# Altium footprint library AD9172+K7.PcbLib: 77 footprints (part 3 of 5)
Each footprint in its own frame and in the unit in brackets; x right, y up, seen from the top. Pads: shape width x height; smd on the part's side, far side on the other; paste and mask are expansions set on the pad; w line width, h text height; cw(c..) or ccw(c..) is an arc to the next point about the centre after c.
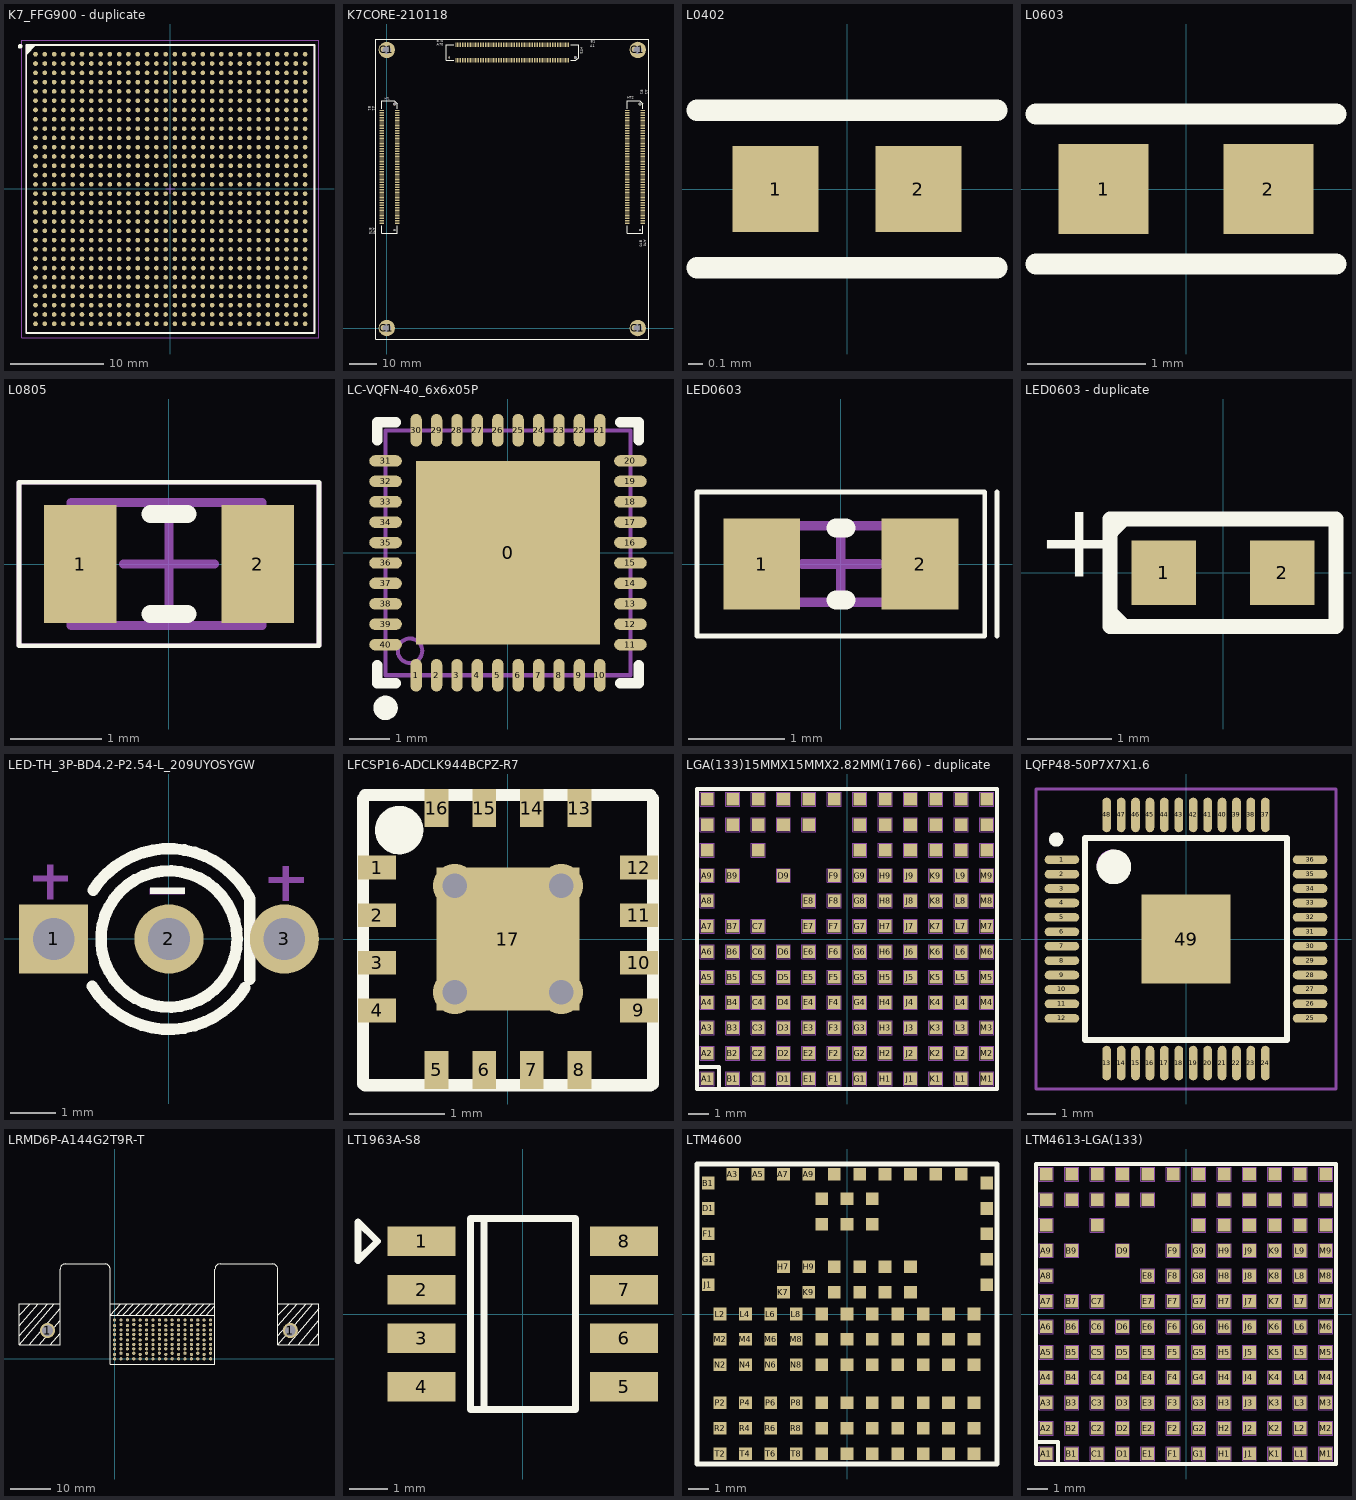
[diagram p2: the footprints below, top view; thin cyan lines are the x and y axes]

## K7_FFG900 - duplicate [mm]
height 2.54
pads (900):
  round 0.5 smd: A1(-14.5,14.5) A2(-13.5,14.5) A3(-12.5,14.5) A4(-11.5,14.5) A5(-10.5,14.5) A6(-9.5,14.5) A7(-8.5,14.5) A8(-7.5,14.5) A9(-6.5,14.5) A10(-5.5,14.5) A11(-4.5,14.5) A12(-3.5,14.5) A13(-2.5,14.5) A14(-1.5,14.5) A15(-0.5,14.5) A16(0.5,14.5) A17(1.5,14.5) A18(2.5,14.5) A19(3.5,14.5) A20(4.5,14.5) A21(5.5,14.5) A22(6.5,14.5) A23(7.5,14.5) A24(8.5,14.5) A25(9.5,14.5) A26(10.5,14.5) A27(11.5,14.5) A28(12.5,14.5) A29(13.5,14.5) A30(14.5,14.5) AA1(-14.5,-5.5) AA2(-13.5,-5.5) AA3(-12.5,-5.5) AA4(-11.5,-5.5) AA5(-10.5,-5.5) AA6(-9.5,-5.5) AA7(-8.5,-5.5) AA8(-7.5,-5.5) AA9(-6.5,-5.5) AA10(-5.5,-5.5) AA11(-4.5,-5.5) AA12(-3.5,-5.5) AA13(-2.5,-5.5) AA14(-1.5,-5.5) AA15(-0.5,-5.5) AA16(0.5,-5.5) AA17(1.5,-5.5) AA18(2.5,-5.5) AA19(3.5,-5.5) AA20(4.5,-5.5) AA21(5.5,-5.5) AA22(6.5,-5.5) AA23(7.5,-5.5) AA24(8.5,-5.5) AA25(9.5,-5.5) AA26(10.5,-5.5) AA27(11.5,-5.5) AA28(12.5,-5.5) AA29(13.5,-5.5) AA30(14.5,-5.5) AB1(-14.5,-6.5) AB2(-13.5,-6.5) AB3(-12.5,-6.5) AB4(-11.5,-6.5) AB5(-10.5,-6.5) AB6(-9.5,-6.5) AB7(-8.5,-6.5) AB8(-7.5,-6.5) AB9(-6.5,-6.5) AB10(-5.5,-6.5) AB11(-4.5,-6.5) AB12(-3.5,-6.5) AB13(-2.5,-6.5) AB14(-1.5,-6.5) AB15(-0.5,-6.5) AB16(0.5,-6.5) AB17(1.5,-6.5) AB18(2.5,-6.5) AB19(3.5,-6.5) AB20(4.5,-6.5) AB21(5.5,-6.5) AB22(6.5,-6.5) AB23(7.5,-6.5) AB24(8.5,-6.5) AB25(9.5,-6.5) AB26(10.5,-6.5) AB27(11.5,-6.5) AB28(12.5,-6.5) AB29(13.5,-6.5) AB30(14.5,-6.5) AC1(-14.5,-7.5) AC2(-13.5,-7.5) AC3(-12.5,-7.5) AC4(-11.5,-7.5) AC5(-10.5,-7.5) AC6(-9.5,-7.5) AC7(-8.5,-7.5) AC8(-7.5,-7.5) AC9(-6.5,-7.5) AC10(-5.5,-7.5) AC11(-4.5,-7.5) AC12(-3.5,-7.5) AC13(-2.5,-7.5) AC14(-1.5,-7.5) AC15(-0.5,-7.5) AC16(0.5,-7.5) AC17(1.5,-7.5) AC18(2.5,-7.5) AC19(3.5,-7.5) AC20(4.5,-7.5) AC21(5.5,-7.5) AC22(6.5,-7.5) AC23(7.5,-7.5) AC24(8.5,-7.5) AC25(9.5,-7.5) AC26(10.5,-7.5) AC27(11.5,-7.5) AC28(12.5,-7.5) AC29(13.5,-7.5) AC30(14.5,-7.5) AD1(-14.5,-8.5) AD2(-13.5,-8.5) AD3(-12.5,-8.5) AD4(-11.5,-8.5) AD5(-10.5,-8.5) AD6(-9.5,-8.5) AD7(-8.5,-8.5) AD8(-7.5,-8.5) AD9(-6.5,-8.5) AD10(-5.5,-8.5) AD11(-4.5,-8.5) AD12(-3.5,-8.5) AD13(-2.5,-8.5) AD14(-1.5,-8.5) AD15(-0.5,-8.5) AD16(0.5,-8.5) AD17(1.5,-8.5) AD18(2.5,-8.5) AD19(3.5,-8.5) AD20(4.5,-8.5) AD21(5.5,-8.5) AD22(6.5,-8.5) AD23(7.5,-8.5) AD24(8.5,-8.5) AD25(9.5,-8.5) AD26(10.5,-8.5) AD27(11.5,-8.5) AD28(12.5,-8.5) AD29(13.5,-8.5) AD30(14.5,-8.5) AE1(-14.5,-9.5) AE2(-13.5,-9.5) AE3(-12.5,-9.5) AE4(-11.5,-9.5) AE5(-10.5,-9.5) AE6(-9.5,-9.5) AE7(-8.5,-9.5) AE8(-7.5,-9.5) AE9(-6.5,-9.5) AE10(-5.5,-9.5) AE11(-4.5,-9.5) AE12(-3.5,-9.5) AE13(-2.5,-9.5) AE14(-1.5,-9.5) AE15(-0.5,-9.5) AE16(0.5,-9.5) AE17(1.5,-9.5) AE18(2.5,-9.5) AE19(3.5,-9.5) AE20(4.5,-9.5) AE21(5.5,-9.5) AE22(6.5,-9.5) AE23(7.5,-9.5) AE24(8.5,-9.5) AE25(9.5,-9.5) AE26(10.5,-9.5) AE27(11.5,-9.5) AE28(12.5,-9.5) AE29(13.5,-9.5) AE30(14.5,-9.5) AF1(-14.5,-10.5) AF2(-13.5,-10.5) AF3(-12.5,-10.5) AF4(-11.5,-10.5) AF5(-10.5,-10.5) AF6(-9.5,-10.5) AF7(-8.5,-10.5) AF8(-7.5,-10.5) AF9(-6.5,-10.5) AF10(-5.5,-10.5) AF11(-4.5,-10.5) AF12(-3.5,-10.5) AF13(-2.5,-10.5) AF14(-1.5,-10.5) AF15(-0.5,-10.5) AF16(0.5,-10.5) AF17(1.5,-10.5) AF18(2.5,-10.5) AF19(3.5,-10.5) AF20(4.5,-10.5) AF21(5.5,-10.5) AF22(6.5,-10.5) AF23(7.5,-10.5) AF24(8.5,-10.5) AF25(9.5,-10.5) AF26(10.5,-10.5) AF27(11.5,-10.5) AF28(12.5,-10.5) AF29(13.5,-10.5) AF30(14.5,-10.5) AG1(-14.5,-11.5) AG2(-13.5,-11.5) AG3(-12.5,-11.5) AG4(-11.5,-11.5) AG5(-10.5,-11.5) AG6(-9.5,-11.5) AG7(-8.5,-11.5) AG8(-7.5,-11.5) AG9(-6.5,-11.5) AG10(-5.5,-11.5) AG11(-4.5,-11.5) AG12(-3.5,-11.5) AG13(-2.5,-11.5) AG14(-1.5,-11.5) AG15(-0.5,-11.5) AG16(0.5,-11.5) AG17(1.5,-11.5) AG18(2.5,-11.5) AG19(3.5,-11.5) AG20(4.5,-11.5) AG21(5.5,-11.5) AG22(6.5,-11.5) AG23(7.5,-11.5) AG24(8.5,-11.5) AG25(9.5,-11.5) AG26(10.5,-11.5) AG27(11.5,-11.5) AG28(12.5,-11.5) AG29(13.5,-11.5) AG30(14.5,-11.5) AH1(-14.5,-12.5) AH2(-13.5,-12.5) AH3(-12.5,-12.5) AH4(-11.5,-12.5) AH5(-10.5,-12.5) AH6(-9.5,-12.5) AH7(-8.5,-12.5) AH8(-7.5,-12.5) AH9(-6.5,-12.5) AH10(-5.5,-12.5) AH11(-4.5,-12.5) AH12(-3.5,-12.5) AH13(-2.5,-12.5) AH14(-1.5,-12.5) AH15(-0.5,-12.5) AH16(0.5,-12.5) AH17(1.5,-12.5) AH18(2.5,-12.5) AH19(3.5,-12.5) AH20(4.5,-12.5) AH21(5.5,-12.5) AH22(6.5,-12.5) AH23(7.5,-12.5) AH24(8.5,-12.5) AH25(9.5,-12.5) AH26(10.5,-12.5) AH27(11.5,-12.5) AH28(12.5,-12.5) AH29(13.5,-12.5) AH30(14.5,-12.5) AJ1(-14.5,-13.5) AJ2(-13.5,-13.5) AJ3(-12.5,-13.5) AJ4(-11.5,-13.5) AJ5(-10.5,-13.5) AJ6(-9.5,-13.5) AJ7(-8.5,-13.5) AJ8(-7.5,-13.5) AJ9(-6.5,-13.5) AJ10(-5.5,-13.5) AJ11(-4.5,-13.5) AJ12(-3.5,-13.5) AJ13(-2.5,-13.5) AJ14(-1.5,-13.5) AJ15(-0.5,-13.5) AJ16(0.5,-13.5) AJ17(1.5,-13.5) AJ18(2.5,-13.5) AJ19(3.5,-13.5) AJ20(4.5,-13.5) AJ21(5.5,-13.5) AJ22(6.5,-13.5) AJ23(7.5,-13.5) AJ24(8.5,-13.5) AJ25(9.5,-13.5) AJ26(10.5,-13.5) AJ27(11.5,-13.5) AJ28(12.5,-13.5) AJ29(13.5,-13.5) AJ30(14.5,-13.5) AK1(-14.5,-14.5) AK2(-13.5,-14.5) AK3(-12.5,-14.5) AK4(-11.5,-14.5) AK5(-10.5,-14.5) AK6(-9.5,-14.5) AK7(-8.5,-14.5) AK8(-7.5,-14.5) AK9(-6.5,-14.5) AK10(-5.5,-14.5) AK11(-4.5,-14.5) AK12(-3.5,-14.5) AK13(-2.5,-14.5) AK14(-1.5,-14.5) AK15(-0.5,-14.5) AK16(0.5,-14.5) AK17(1.5,-14.5) AK18(2.5,-14.5) AK19(3.5,-14.5) AK20(4.5,-14.5) AK21(5.5,-14.5) AK22(6.5,-14.5) AK23(7.5,-14.5) AK24(8.5,-14.5) AK25(9.5,-14.5) AK26(10.5,-14.5) AK27(11.5,-14.5) AK28(12.5,-14.5) AK29(13.5,-14.5) AK30(14.5,-14.5) B1(-14.5,13.5) B2(-13.5,13.5) B3(-12.5,13.5) B4(-11.5,13.5) B5(-10.5,13.5) B6(-9.5,13.5) B7(-8.5,13.5) B8(-7.5,13.5) B9(-6.5,13.5) B10(-5.5,13.5) B11(-4.5,13.5) B12(-3.5,13.5) B13(-2.5,13.5) B14(-1.5,13.5) B15(-0.5,13.5) B16(0.5,13.5) B17(1.5,13.5) B18(2.5,13.5) B19(3.5,13.5) B20(4.5,13.5) B21(5.5,13.5) B22(6.5,13.5) B23(7.5,13.5) B24(8.5,13.5) B25(9.5,13.5) B26(10.5,13.5) B27(11.5,13.5) B28(12.5,13.5) B29(13.5,13.5) B30(14.5,13.5) C1(-14.5,12.5) C2(-13.5,12.5) C3(-12.5,12.5) C4(-11.5,12.5) C5(-10.5,12.5) C6(-9.5,12.5) C7(-8.5,12.5) C8(-7.5,12.5) C9(-6.5,12.5) C10(-5.5,12.5) C11(-4.5,12.5) C12(-3.5,12.5) C13(-2.5,12.5) C14(-1.5,12.5) C15(-0.5,12.5) C16(0.5,12.5) C17(1.5,12.5) C18(2.5,12.5) C19(3.5,12.5) C20(4.5,12.5) C21(5.5,12.5) C22(6.5,12.5) C23(7.5,12.5) C24(8.5,12.5) C25(9.5,12.5) C26(10.5,12.5) C27(11.5,12.5) C28(12.5,12.5) C29(13.5,12.5) C30(14.5,12.5) D1(-14.5,11.5) D2(-13.5,11.5) D3(-12.5,11.5) D4(-11.5,11.5) D5(-10.5,11.5) D6(-9.5,11.5) D7(-8.5,11.5) D8(-7.5,11.5) D9(-6.5,11.5) D10(-5.5,11.5) D11(-4.5,11.5) D12(-3.5,11.5) D13(-2.5,11.5) D14(-1.5,11.5) D15(-0.5,11.5) D16(0.5,11.5) D17(1.5,11.5) D18(2.5,11.5) D19(3.5,11.5) D20(4.5,11.5) D21(5.5,11.5) D22(6.5,11.5) D23(7.5,11.5) D24(8.5,11.5) D25(9.5,11.5) D26(10.5,11.5) D27(11.5,11.5) D28(12.5,11.5) D29(13.5,11.5) D30(14.5,11.5) E1(-14.5,10.5) E2(-13.5,10.5) E3(-12.5,10.5) E4(-11.5,10.5) E5(-10.5,10.5) E6(-9.5,10.5) E7(-8.5,10.5) E8(-7.5,10.5) E9(-6.5,10.5) E10(-5.5,10.5) E11(-4.5,10.5) E12(-3.5,10.5) E13(-2.5,10.5) E14(-1.5,10.5) E15(-0.5,10.5) E16(0.5,10.5) E17(1.5,10.5) E18(2.5,10.5) E19(3.5,10.5) E20(4.5,10.5) E21(5.5,10.5) E22(6.5,10.5) E23(7.5,10.5) E24(8.5,10.5) E25(9.5,10.5) E26(10.5,10.5) E27(11.5,10.5) E28(12.5,10.5) E29(13.5,10.5) E30(14.5,10.5) F1(-14.5,9.5) F2(-13.5,9.5) F3(-12.5,9.5) F4(-11.5,9.5) F5(-10.5,9.5) F6(-9.5,9.5) F7(-8.5,9.5) F8(-7.5,9.5) F9(-6.5,9.5) F10(-5.5,9.5) F11(-4.5,9.5) F12(-3.5,9.5) F13(-2.5,9.5) F14(-1.5,9.5) F15(-0.5,9.5) F16(0.5,9.5) F17(1.5,9.5) F18(2.5,9.5) F19(3.5,9.5) F20(4.5,9.5) F21(5.5,9.5) F22(6.5,9.5) F23(7.5,9.5) F24(8.5,9.5) F25(9.5,9.5) F26(10.5,9.5) F27(11.5,9.5) F28(12.5,9.5) F29(13.5,9.5) F30(14.5,9.5) G1(-14.5,8.5) G2(-13.5,8.5) G3(-12.5,8.5) G4(-11.5,8.5) G5(-10.5,8.5) G6(-9.5,8.5) G7(-8.5,8.5) G8(-7.5,8.5) G9(-6.5,8.5) G10(-5.5,8.5) G11(-4.5,8.5) G12(-3.5,8.5) G13(-2.5,8.5) G14(-1.5,8.5) G15(-0.5,8.5) G16(0.5,8.5) G17(1.5,8.5) G18(2.5,8.5) G19(3.5,8.5) G20(4.5,8.5) G21(5.5,8.5) G22(6.5,8.5) G23(7.5,8.5) G24(8.5,8.5) G25(9.5,8.5) G26(10.5,8.5) G27(11.5,8.5) G28(12.5,8.5) G29(13.5,8.5) G30(14.5,8.5) H1(-14.5,7.5) H2(-13.5,7.5) H3(-12.5,7.5) H4(-11.5,7.5) H5(-10.5,7.5) H6(-9.5,7.5) H7(-8.5,7.5) H8(-7.5,7.5) H9(-6.5,7.5) H10(-5.5,7.5) H11(-4.5,7.5) H12(-3.5,7.5) H13(-2.5,7.5) H14(-1.5,7.5) H15(-0.5,7.5) H16(0.5,7.5) H17(1.5,7.5) H18(2.5,7.5) H19(3.5,7.5) H20(4.5,7.5) H21(5.5,7.5) H22(6.5,7.5) H23(7.5,7.5) H24(8.5,7.5) H25(9.5,7.5) H26(10.5,7.5) H27(11.5,7.5) H28(12.5,7.5) H29(13.5,7.5) H30(14.5,7.5) J1(-14.5,6.5) J2(-13.5,6.5) J3(-12.5,6.5) J4(-11.5,6.5) J5(-10.5,6.5) J6(-9.5,6.5) J7(-8.5,6.5) J8(-7.5,6.5) J9(-6.5,6.5) J10(-5.5,6.5) J11(-4.5,6.5) J12(-3.5,6.5) J13(-2.5,6.5) J14(-1.5,6.5) J15(-0.5,6.5) J16(0.5,6.5) J17(1.5,6.5) J18(2.5,6.5) J19(3.5,6.5) J20(4.5,6.5) J21(5.5,6.5) J22(6.5,6.5) J23(7.5,6.5) J24(8.5,6.5) J25(9.5,6.5) J26(10.5,6.5) J27(11.5,6.5) J28(12.5,6.5) J29(13.5,6.5) J30(14.5,6.5) K1(-14.5,5.5) K2(-13.5,5.5) K3(-12.5,5.5) K4(-11.5,5.5) K5(-10.5,5.5) K6(-9.5,5.5) K7(-8.5,5.5) K8(-7.5,5.5) K9(-6.5,5.5) K10(-5.5,5.5) K11(-4.5,5.5) K12(-3.5,5.5) K13(-2.5,5.5) K14(-1.5,5.5) K15(-0.5,5.5) K16(0.5,5.5) K17(1.5,5.5) K18(2.5,5.5) K19(3.5,5.5) K20(4.5,5.5) K21(5.5,5.5) K22(6.5,5.5) K23(7.5,5.5) K24(8.5,5.5) K25(9.5,5.5) K26(10.5,5.5) K27(11.5,5.5) K28(12.5,5.5) K29(13.5,5.5) K30(14.5,5.5) L1(-14.5,4.5) L2(-13.5,4.5) L3(-12.5,4.5) L4(-11.5,4.5) L5(-10.5,4.5) L6(-9.5,4.5) L7(-8.5,4.5) L8(-7.5,4.5) L9(-6.5,4.5) L10(-5.5,4.5) L11(-4.5,4.5) L12(-3.5,4.5) L13(-2.5,4.5) L14(-1.5,4.5) L15(-0.5,4.5) L16(0.5,4.5) L17(1.5,4.5) L18(2.5,4.5) L19(3.5,4.5) L20(4.5,4.5) L21(5.5,4.5) L22(6.5,4.5) L23(7.5,4.5) L24(8.5,4.5) L25(9.5,4.5) L26(10.5,4.5) L27(11.5,4.5) L28(12.5,4.5) L29(13.5,4.5) L30(14.5,4.5) M1(-14.5,3.5) M2(-13.5,3.5) M3(-12.5,3.5) M4(-11.5,3.5) M5(-10.5,3.5) M6(-9.5,3.5) M7(-8.5,3.5) M8(-7.5,3.5) M9(-6.5,3.5) M10(-5.5,3.5) M11(-4.5,3.5) M12(-3.5,3.5) M13(-2.5,3.5) M14(-1.5,3.5) M15(-0.5,3.5) M16(0.5,3.5) M17(1.5,3.5) M18(2.5,3.5) M19(3.5,3.5) M20(4.5,3.5) M21(5.5,3.5) M22(6.5,3.5) M23(7.5,3.5) M24(8.5,3.5) M25(9.5,3.5) M26(10.5,3.5) M27(11.5,3.5) M28(12.5,3.5) M29(13.5,3.5) M30(14.5,3.5) N1(-14.5,2.5) N2(-13.5,2.5) N3(-12.5,2.5) N4(-11.5,2.5) N5(-10.5,2.5) N6(-9.5,2.5) N7(-8.5,2.5) N8(-7.5,2.5) N9(-6.5,2.5) N10(-5.5,2.5) N11(-4.5,2.5) N12(-3.5,2.5) N13(-2.5,2.5) N14(-1.5,2.5) N15(-0.5,2.5) N16(0.5,2.5) N17(1.5,2.5) N18(2.5,2.5) N19(3.5,2.5) N20(4.5,2.5) N21(5.5,2.5) N22(6.5,2.5) N23(7.5,2.5) N24(8.5,2.5) N25(9.5,2.5) N26(10.5,2.5) N27(11.5,2.5) N28(12.5,2.5) N29(13.5,2.5) N30(14.5,2.5) P1(-14.5,1.5) P2(-13.5,1.5) P3(-12.5,1.5) P4(-11.5,1.5) P5(-10.5,1.5) P6(-9.5,1.5) P7(-8.5,1.5) P8(-7.5,1.5) P9(-6.5,1.5) P10(-5.5,1.5) P11(-4.5,1.5) P12(-3.5,1.5) P13(-2.5,1.5) P14(-1.5,1.5) P15(-0.5,1.5) P16(0.5,1.5) P17(1.5,1.5) P18(2.5,1.5) P19(3.5,1.5) P20(4.5,1.5) P21(5.5,1.5) P22(6.5,1.5) P23(7.5,1.5) P24(8.5,1.5) P25(9.5,1.5) P26(10.5,1.5) P27(11.5,1.5) P28(12.5,1.5) P29(13.5,1.5) P30(14.5,1.5) R1(-14.5,0.5) R2(-13.5,0.5) R3(-12.5,0.5) R4(-11.5,0.5) R5(-10.5,0.5) R6(-9.5,0.5) R7(-8.5,0.5) R8(-7.5,0.5) R9(-6.5,0.5) R10(-5.5,0.5) R11(-4.5,0.5) R12(-3.5,0.5) R13(-2.5,0.5) R14(-1.5,0.5) R15(-0.5,0.5) R16(0.5,0.5) R17(1.5,0.5) R18(2.5,0.5) R19(3.5,0.5) R20(4.5,0.5) R21(5.5,0.5) R22(6.5,0.5) R23(7.5,0.5) R24(8.5,0.5) R25(9.5,0.5) R26(10.5,0.5) R27(11.5,0.5) R28(12.5,0.5) R29(13.5,0.5) R30(14.5,0.5) T1(-14.5,-0.5) T2(-13.5,-0.5) T3(-12.5,-0.5) T4(-11.5,-0.5) T5(-10.5,-0.5) T6(-9.5,-0.5) T7(-8.5,-0.5) T8(-7.5,-0.5) T9(-6.5,-0.5) T10(-5.5,-0.5) T11(-4.5,-0.5) T12(-3.5,-0.5) T13(-2.5,-0.5) T14(-1.5,-0.5) T15(-0.5,-0.5) T16(0.5,-0.5) T17(1.5,-0.5) T18(2.5,-0.5) T19(3.5,-0.5) T20(4.5,-0.5) T21(5.5,-0.5) T22(6.5,-0.5) T23(7.5,-0.5) T24(8.5,-0.5) T25(9.5,-0.5) T26(10.5,-0.5) T27(11.5,-0.5) T28(12.5,-0.5) T29(13.5,-0.5) T30(14.5,-0.5) U1(-14.5,-1.5) U2(-13.5,-1.5) U3(-12.5,-1.5) U4(-11.5,-1.5) U5(-10.5,-1.5) U6(-9.5,-1.5) U7(-8.5,-1.5) U8(-7.5,-1.5) U9(-6.5,-1.5) U10(-5.5,-1.5) U11(-4.5,-1.5) U12(-3.5,-1.5) U13(-2.5,-1.5) U14(-1.5,-1.5) U15(-0.5,-1.5) U16(0.5,-1.5) U17(1.5,-1.5) U18(2.5,-1.5) U19(3.5,-1.5) U20(4.5,-1.5) U21(5.5,-1.5) U22(6.5,-1.5) U23(7.5,-1.5) U24(8.5,-1.5) U25(9.5,-1.5) U26(10.5,-1.5) U27(11.5,-1.5) U28(12.5,-1.5) U29(13.5,-1.5) U30(14.5,-1.5) V1(-14.5,-2.5) V2(-13.5,-2.5) V3(-12.5,-2.5) V4(-11.5,-2.5) V5(-10.5,-2.5) V6(-9.5,-2.5) V7(-8.5,-2.5) V8(-7.5,-2.5) V9(-6.5,-2.5) V10(-5.5,-2.5) V11(-4.5,-2.5) V12(-3.5,-2.5) V13(-2.5,-2.5) V14(-1.5,-2.5) V15(-0.5,-2.5) V16(0.5,-2.5) V17(1.5,-2.5) V18(2.5,-2.5) V19(3.5,-2.5) V20(4.5,-2.5) V21(5.5,-2.5) V22(6.5,-2.5) V23(7.5,-2.5) V24(8.5,-2.5) V25(9.5,-2.5) V26(10.5,-2.5) V27(11.5,-2.5) V28(12.5,-2.5) V29(13.5,-2.5) V30(14.5,-2.5) W1(-14.5,-3.5) W2(-13.5,-3.5) W3(-12.5,-3.5) W4(-11.5,-3.5) W5(-10.5,-3.5) W6(-9.5,-3.5) W7(-8.5,-3.5) W8(-7.5,-3.5) W9(-6.5,-3.5) W10(-5.5,-3.5) W11(-4.5,-3.5) W12(-3.5,-3.5) W13(-2.5,-3.5) W14(-1.5,-3.5) W15(-0.5,-3.5) W16(0.5,-3.5) W17(1.5,-3.5) W18(2.5,-3.5) W19(3.5,-3.5) W20(4.5,-3.5) W21(5.5,-3.5) W22(6.5,-3.5) W23(7.5,-3.5) W24(8.5,-3.5) W25(9.5,-3.5) W26(10.5,-3.5) W27(11.5,-3.5) W28(12.5,-3.5) W29(13.5,-3.5) W30(14.5,-3.5) Y1(-14.5,-4.5) Y2(-13.5,-4.5) Y3(-12.5,-4.5) Y4(-11.5,-4.5) Y5(-10.5,-4.5) Y6(-9.5,-4.5) Y7(-8.5,-4.5) Y8(-7.5,-4.5) Y9(-6.5,-4.5) Y10(-5.5,-4.5) Y11(-4.5,-4.5) Y12(-3.5,-4.5) Y13(-2.5,-4.5) Y14(-1.5,-4.5) Y15(-0.5,-4.5) Y16(0.5,-4.5) Y17(1.5,-4.5) Y18(2.5,-4.5) Y19(3.5,-4.5) Y20(4.5,-4.5) Y21(5.5,-4.5) Y22(6.5,-4.5) Y23(7.5,-4.5) Y24(8.5,-4.5) Y25(9.5,-4.5) Y26(10.5,-4.5) Y27(11.5,-4.5) Y28(12.5,-4.5) Y29(13.5,-4.5) Y30(14.5,-4.5)
Top Overlay:
  circle w0.25: c-16.15,15.35 r0.125
  region: -14.5,15.5 -15.5,14.5 -15.5,15.5
  lines w0.2: -15.5,14.5 -14.5,15.5 ; -15.5,-15.5 15.5,-15.5 15.5,15.5 -15.5,15.5 -15.5,-15.5
Mechanical 13:
  lines w0.1: -15.5,-15.5 15.5,-15.5 15.5,15.5 -15.5,15.5 -15.5,-15.5
Mechanical 15:
  lines w0.05: -16,-16 16,-16 16,16 -16,16 -16,-16
  lines w0.1: -0.5,0 0.5,0 ; 0,-0.5 0,0.5
3D body: height 2.54, standoff 0.4, extent -15.5,-15.5 15.5,15.5

## K7CORE-210118 [mm] "TT202101182204"
pads (430):
  rect 1.7x0.35 smd mask+0.102: A1_1(3.85,79.7) A1_2(3.85,79.1) A1_3(3.85,78.5) A1_4(3.85,77.9) A1_5(3.85,77.3) A1_6(3.85,76.7) A1_7(3.85,76.1) A1_8(3.85,75.5) A1_9(3.85,74.9) A1_10(3.85,74.3) A1_11(3.85,73.7) A1_12(3.85,73.1) A1_13(3.85,72.5) A1_14(3.85,71.9) A1_15(3.85,71.3) A1_16(3.85,70.7) A1_17(3.85,70.1) A1_18(3.85,69.5) A1_19(3.85,68.9) A1_20(3.85,68.3) A1_21(3.85,67.7) A1_22(3.85,67.1) A1_23(3.85,66.5) A1_24(3.85,65.9) A1_25(3.85,65.3) A1_26(3.85,64.7) A1_27(3.85,64.1) A1_28(3.85,63.5) A1_29(3.85,62.9) A1_30(3.85,62.3) A1_31(3.85,61.7) A1_32(3.85,61.1) A1_33(3.85,60.5) A1_34(3.85,59.9) A1_35(3.85,59.3) A1_36(3.85,58.7) A1_37(3.85,58.1) A1_38(3.85,57.5) A1_39(3.85,56.9) A1_40(3.85,56.3) A1_41(3.85,55.7) A1_42(3.85,55.1) A1_43(3.85,54.5) A1_44(3.85,53.9) A1_45(3.85,53.3) A1_46(3.85,52.7) A1_47(3.85,52.1) A1_48(3.85,51.5) A1_49(3.85,50.9) A1_50(3.85,50.3) A1_51(3.85,49.7) A1_52(3.85,49.1) A1_53(3.85,48.5) A1_54(3.85,47.9) A1_55(3.85,47.3) A1_56(3.85,46.7) A1_57(3.85,46.1) A1_58(3.85,45.5) A1_59(3.85,44.9) A1_60(3.85,44.3) A1_61(3.85,43.7) A1_62(3.85,43.1) A1_63(3.85,42.5) A1_64(3.85,41.9) A1_65(3.85,41.3) A1_66(3.85,40.7) A1_67(3.85,40.1) A1_68(3.85,39.5) A1_69(3.85,38.9) A1_70(3.85,38.3) A2_1(93.85,79.7) A2_2(93.85,79.1) A2_3(93.85,78.5) A2_4(93.85,77.9) A2_5(93.85,77.3) A2_6(93.85,76.7) A2_7(93.85,76.1) A2_8(93.85,75.5) A2_9(93.85,74.9) A2_10(93.85,74.3) A2_11(93.85,73.7) A2_12(93.85,73.1) A2_13(93.85,72.5) A2_14(93.85,71.9) A2_15(93.85,71.3) A2_16(93.85,70.7) A2_17(93.85,70.1) A2_18(93.85,69.5) A2_19(93.85,68.9) A2_20(93.85,68.3) A2_21(93.85,67.7) A2_22(93.85,67.1) A2_23(93.85,66.5) A2_24(93.85,65.9) A2_25(93.85,65.3) A2_26(93.85,64.7) A2_27(93.85,64.1) A2_28(93.85,63.5) A2_29(93.85,62.9) A2_30(93.85,62.3) A2_31(93.85,61.7) A2_32(93.85,61.1) A2_33(93.85,60.5) A2_34(93.85,59.9) A2_35(93.85,59.3) A2_36(93.85,58.7) A2_37(93.85,58.1) A2_38(93.85,57.5) A2_39(93.85,56.9) A2_40(93.85,56.3) A2_41(93.85,55.7) A2_42(93.85,55.1) A2_43(93.85,54.5) A2_44(93.85,53.9) A2_45(93.85,53.3) A2_46(93.85,52.7) A2_47(93.85,52.1) A2_48(93.85,51.5) A2_49(93.85,50.9) A2_50(93.85,50.3) A2_51(93.85,49.7) A2_52(93.85,49.1) A2_53(93.85,48.5) A2_54(93.85,47.9) A2_55(93.85,47.3) A2_56(93.85,46.7) A2_57(93.85,46.1) A2_58(93.85,45.5) A2_59(93.85,44.9) A2_60(93.85,44.3) A2_61(93.85,43.7) A2_62(93.85,43.1) A2_63(93.85,42.5) A2_64(93.85,41.9) A2_65(93.85,41.3) A2_66(93.85,40.7) A2_67(93.85,40.1) A2_68(93.85,39.5) A2_69(93.85,38.9) A2_70(93.85,38.3) B1_1(-1.85,79.7) B1_2(-1.85,79.1) B1_3(-1.85,78.5) B1_4(-1.85,77.9) B1_5(-1.85,77.3) B1_6(-1.85,76.7) B1_7(-1.85,76.1) B1_8(-1.85,75.5) B1_9(-1.85,74.9) B1_10(-1.85,74.3) B1_11(-1.85,73.7) B1_12(-1.85,73.1) B1_13(-1.85,72.5) B1_14(-1.85,71.9) B1_15(-1.85,71.3) B1_16(-1.85,70.7) B1_17(-1.85,70.1) B1_18(-1.85,69.5) B1_19(-1.85,68.9) B1_20(-1.85,68.3) B1_21(-1.85,67.7) B1_22(-1.85,67.1) B1_23(-1.85,66.5) B1_24(-1.85,65.9) B1_25(-1.85,65.3) B1_26(-1.85,64.7) B1_27(-1.85,64.1) B1_28(-1.85,63.5) B1_29(-1.85,62.9) B1_30(-1.85,62.3) B1_31(-1.85,61.7) B1_32(-1.85,61.1) B1_33(-1.85,60.5) B1_34(-1.85,59.9) B1_35(-1.85,59.3) B1_36(-1.85,58.7) B1_37(-1.85,58.1) B1_38(-1.85,57.5) B1_39(-1.85,56.9) B1_40(-1.85,56.3) B1_41(-1.85,55.7) B1_42(-1.85,55.1) B1_43(-1.85,54.5) B1_44(-1.85,53.9) B1_45(-1.85,53.3) B1_46(-1.85,52.7) B1_47(-1.85,52.1) B1_48(-1.85,51.5) B1_49(-1.85,50.9) B1_50(-1.85,50.3) B1_51(-1.85,49.7) B1_52(-1.85,49.1) B1_53(-1.85,48.5) B1_54(-1.85,47.9) B1_55(-1.85,47.3) B1_56(-1.85,46.7) B1_57(-1.85,46.1) B1_58(-1.85,45.5) B1_59(-1.85,44.9) B1_60(-1.85,44.3) B1_61(-1.85,43.7) B1_62(-1.85,43.1) B1_63(-1.85,42.5) B1_64(-1.85,41.9) B1_65(-1.85,41.3) B1_66(-1.85,40.7) B1_67(-1.85,40.1) B1_68(-1.85,39.5) B1_69(-1.85,38.9) B1_70(-1.85,38.3) B2_1(88.15,79.7) B2_2(88.15,79.1) B2_3(88.15,78.5) B2_4(88.15,77.9) B2_5(88.15,77.3) B2_6(88.15,76.7) B2_7(88.15,76.1) B2_8(88.15,75.5) B2_9(88.15,74.9) B2_10(88.15,74.3) B2_11(88.15,73.7) B2_12(88.15,73.1) B2_13(88.15,72.5) B2_14(88.15,71.9) B2_15(88.15,71.3) B2_16(88.15,70.7) B2_17(88.15,70.1) B2_18(88.15,69.5) B2_19(88.15,68.9) B2_20(88.15,68.3) B2_21(88.15,67.7) B2_22(88.15,67.1) B2_23(88.15,66.5) B2_24(88.15,65.9) B2_25(88.15,65.3) B2_26(88.15,64.7) B2_27(88.15,64.1) B2_28(88.15,63.5) B2_29(88.15,62.9) B2_30(88.15,62.3) B2_31(88.15,61.7) B2_32(88.15,61.1) B2_33(88.15,60.5) B2_34(88.15,59.9) B2_35(88.15,59.3) B2_36(88.15,58.7) B2_37(88.15,58.1) B2_38(88.15,57.5) B2_39(88.15,56.9) B2_40(88.15,56.3) B2_41(88.15,55.7) B2_42(88.15,55.1) B2_43(88.15,54.5) B2_44(88.15,53.9) B2_45(88.15,53.3) B2_46(88.15,52.7) B2_47(88.15,52.1) B2_48(88.15,51.5) B2_49(88.15,50.9) B2_50(88.15,50.3) B2_51(88.15,49.7) B2_52(88.15,49.1) B2_53(88.15,48.5) B2_54(88.15,47.9) B2_55(88.15,47.3) B2_56(88.15,46.7) B2_57(88.15,46.1) B2_58(88.15,45.5) B2_59(88.15,44.9) B2_60(88.15,44.3) B2_61(88.15,43.7) B2_62(88.15,43.1) B2_63(88.15,42.5) B2_64(88.15,41.9) B2_65(88.15,41.3) B2_66(88.15,40.7) B2_67(88.15,40.1) B2_68(88.15,39.5) B2_69(88.15,38.9) B2_70(88.15,38.3)
  rect 0.35x1.7 smd mask+0.102: A3_1(66.7,98.15) A3_2(66.1,98.15) A3_3(65.5,98.15) A3_4(64.9,98.15) A3_5(64.3,98.15) A3_6(63.7,98.15) A3_7(63.1,98.15) A3_8(62.5,98.15) A3_9(61.9,98.15) A3_10(61.3,98.15) A3_11(60.7,98.15) A3_12(60.1,98.15) A3_13(59.5,98.15) A3_14(58.9,98.15) A3_15(58.3,98.15) A3_16(57.7,98.15) A3_17(57.1,98.15) A3_18(56.5,98.15) A3_19(55.9,98.15) A3_20(55.3,98.15) A3_21(54.7,98.15) A3_22(54.1,98.15) A3_23(53.5,98.15) A3_24(52.9,98.15) A3_25(52.3,98.15) A3_26(51.7,98.15) A3_27(51.1,98.15) A3_28(50.5,98.15) A3_29(49.9,98.15) A3_30(49.3,98.15) A3_31(48.7,98.15) A3_32(48.1,98.15) A3_33(47.5,98.15) A3_34(46.9,98.15) A3_35(46.3,98.15) A3_36(45.7,98.15) A3_37(45.1,98.15) A3_38(44.5,98.15) A3_39(43.9,98.15) A3_40(43.3,98.15) A3_41(42.7,98.15) A3_42(42.1,98.15) A3_43(41.5,98.15) A3_44(40.9,98.15) A3_45(40.3,98.15) A3_46(39.7,98.15) A3_47(39.1,98.15) A3_48(38.5,98.15) A3_49(37.9,98.15) A3_50(37.3,98.15) A3_51(36.7,98.15) A3_52(36.1,98.15) A3_53(35.5,98.15) A3_54(34.9,98.15) A3_55(34.3,98.15) A3_56(33.7,98.15) A3_57(33.1,98.15) A3_58(32.5,98.15) A3_59(31.9,98.15) A3_60(31.3,98.15) A3_61(30.7,98.15) A3_62(30.1,98.15) A3_63(29.5,98.15) A3_64(28.9,98.15) A3_65(28.3,98.15) A3_66(27.7,98.15) A3_67(27.1,98.15) A3_68(26.5,98.15) A3_69(25.9,98.15) A3_70(25.3,98.15) B3_1(66.7,103.85) B3_2(66.1,103.85) B3_3(65.5,103.85) B3_4(64.9,103.85) B3_5(64.3,103.85) B3_6(63.7,103.85) B3_7(63.1,103.85) B3_8(62.5,103.85) B3_9(61.9,103.85) B3_10(61.3,103.85) B3_11(60.7,103.85) B3_12(60.1,103.85) B3_13(59.5,103.85) B3_14(58.9,103.85) B3_15(58.3,103.85) B3_16(57.7,103.85) B3_17(57.1,103.85) B3_18(56.5,103.85) B3_19(55.9,103.85) B3_20(55.3,103.85) B3_21(54.7,103.85) B3_22(54.1,103.85) B3_23(53.5,103.85) B3_24(52.9,103.85) B3_25(52.3,103.85) B3_26(51.7,103.85) B3_27(51.1,103.85) B3_28(50.5,103.85) B3_29(49.9,103.85) B3_30(49.3,103.85) B3_31(48.7,103.85) B3_32(48.1,103.85) B3_33(47.5,103.85) B3_34(46.9,103.85) B3_35(46.3,103.85) B3_36(45.7,103.85) B3_37(45.1,103.85) B3_38(44.5,103.85) B3_39(43.9,103.85) B3_40(43.3,103.85) B3_41(42.7,103.85) B3_42(42.1,103.85) B3_43(41.5,103.85) B3_44(40.9,103.85) B3_45(40.3,103.85) B3_46(39.7,103.85) B3_47(39.1,103.85) B3_48(38.5,103.85) B3_49(37.9,103.85) B3_50(37.3,103.85) B3_51(36.7,103.85) B3_52(36.1,103.85) B3_53(35.5,103.85) B3_54(34.9,103.85) B3_55(34.3,103.85) B3_56(33.7,103.85) B3_57(33.1,103.85) B3_58(32.5,103.85) B3_59(31.9,103.85) B3_60(31.3,103.85) B3_61(30.7,103.85) B3_62(30.1,103.85) B3_63(29.5,103.85) B3_64(28.9,103.85) B3_65(28.3,103.85) B3_66(27.7,103.85) B3_67(27.1,103.85) B3_68(26.5,103.85) B3_69(25.9,103.85) B3_70(25.3,103.85)
  round 6 hole 3: C1(0,0) C1(0,102) C1(92,0) C1(92,102)
  round 0.7 hole 0.7 unplated: ""(2.8,35.9) ""(22.9,99.2) ""(92.8,35.9)
  round 1.1 hole 1.1 unplated: ""(2.8,82.1) ""(69.1,99.2) ""(92.8,82.1)
Top Overlay:
  lines w0.178: -1.8,37.6 -1.8,34.7 3.8,34.7 3.8,37.6 ; -1.8,80.4 -1.8,83.3 2.8,83.3 3.8,82.3 3.8,80.4 ; 24.6,98.2 21.7,98.2 21.7,103.8 24.6,103.8 ; 67.4,98.2 69.3,98.2 70.3,99.2 70.3,103.8 67.4,103.8 ; 88.2,37.6 88.2,34.7 93.8,34.7 93.8,37.6 ; 88.2,80.4 88.2,83.3 92.8,83.3 93.8,82.3 93.8,80.4 ; -4,-4 -4,106 96,106 96,-4 -4,-4
  text "HT3" at 70.609,102.885 h1.52
  text "HT2" at 88.212,83.81 h1.52
  text "HT1" at -0.79,83.581 h0.76
  text "A1" at -5.794,81.386 h1.52
  text "A70" at -5.591,36.809 h1.52
  text "B70" at -6.75,36.809 h1.52
  text "B1" at -7.14,81.386 h1.52
  text "A1" at 74.648,102.595 h1.52
  text "A70" at 18.25,103.103 h1.52
  text "B70" at 18.387,104.373 h1.52
  text "B1" at 74.775,104.246 h1.52
  text "A1" at 94.333,87.482 h1.52
  text "A70" at 93.85,32.364 h1.52
  text "B70" at 92.428,32.237 h1.52
  text "B1" at 92.809,87.355 h1.52

## L0402 [mm]
pads (2):
  rect 0.6x0.6 smd: 1(-0.5,0) 2(0.5,0)
Top Overlay:
  lines w0.15: -1.05,-0.55 -0.2,-0.55 0.2,-0.55 1.05,-0.55 ; -1.05,0.55 -0.2,0.55 0.2,0.55 1.05,0.55

## L0603 [mil]
pads (2):
  rect 30x30 smd: 1(-27.5,0) 2(27.5,0)
Top Overlay:
  lines w7: -50,-25 50,-25 ; -50,25 50,25

## L0805 [mm]
height 0.5
pads (2):
  rect 0.8x1.3 smd: 1(-0.975,0) 2(0.975,0)
Top Overlay:
  lines w0.05: -1.65,-0.9 -1.65,0.9 1.65,0.9 1.65,-0.9 -1.65,-0.9
  lines w0.2: -0.2,-0.55 0.2,-0.55 ; -0.2,0.55 0.2,0.55
Mechanical 13:
  lines w0.1: -1.075,-0.675 1.025,-0.675 1.025,0.675 -1.075,0.675 -1.075,-0.675
Mechanical 15:
  lines w0.05: -1.65,-0.9 -1.65,0.9 1.65,0.9 1.65,-0.9 -1.65,-0.9
  lines w0.1: -0.5,0 0.5,0 ; 0,-0.5 0,0.5
3D body "0805.STEP": height 0.9, standoff 0, extent -1,-0.6 1,0.6

## LC-VQFN-40_6x6x05P [mm]
pads (41):
  rect 4.5x4.5 smd mask+0.051: 0(0,0)
  oval 0.28x0.8 smd mask+0.051: 1(-2.25,-3) 2(-1.75,-3) 3(-1.25,-3) 4(-0.75,-3) 5(-0.25,-3) 6(0.25,-3) 7(0.75,-3) 8(1.25,-3) 9(1.75,-3) 10(2.25,-3) 21(2.25,3) 22(1.75,3) 23(1.25,3) 24(0.75,3) 25(0.25,3) 26(-0.25,3) 27(-0.75,3) 28(-1.25,3) 29(-1.75,3) 30(-2.25,3)
  oval 0.8x0.28 smd mask+0.051: 11(3,-2.25) 12(3,-1.75) 13(3,-1.25) 14(3,-0.75) 15(3,-0.25) 16(3,0.25) 17(3,0.75) 18(3,1.25) 19(3,1.75) 20(3,2.25) 31(-3,2.25) 32(-3,1.75) 33(-3,1.25) 34(-3,0.75) 35(-3,0.25) 36(-3,-0.25) 37(-3,-0.75) 38(-3,-1.25) 39(-3,-1.75) 40(-3,-2.25)
Top Overlay:
  circle w0.3: c-3,-3.8 r0.15
  lines w0.254: -3.2,-2.75 -3.2,-3.2 -2.75,-3.2 ; -3.2,2.75 -3.2,3.2 -2.75,3.2 ; 2.75,-3.2 3.2,-3.2 3.2,-2.75 ; 2.75,3.2 3.2,3.2 3.2,2.75
Mechanical 13:
  circle w0.1: c-2.4,-2.4 r0.3
  lines w0.1: -3,-3 -3,3 3,3 3,-3 -3,-3

## LED0603 [mm]
height 1.2
pads (2):
  rect 0.8x0.95 smd: 1(-0.825,0) 2(0.825,0)
Top Overlay:
  lines w0.05: 1.627,-0.75 1.627,0.75 ; -1.5,-0.75 1.5,-0.75 1.5,0.75 -1.5,0.75 -1.5,-0.75
  lines w0.2: -0.05,-0.375 0.05,-0.375 ; -0.05,0.375 0.05,0.375
Mechanical 13:
  lines w0.1: -0.8,-0.4 0.8,-0.4 0.8,0.4 -0.8,0.4 -0.8,-0.4
Mechanical 15:
  lines w0.1: -0.4,0 0.4,0 ; 0,-0.4 0,0.4
3D body "LED 0603-R.STEP": height 0.47, standoff 0, extent -0.8,-0.401 0.8,0.401

## LED0603 - duplicate [mil]
pads (2):
  rect 30x30 smd: 1(-27.5,0) 2(27.5,0)
Top Overlay:
  lines w7: -52.5,-18.5 -46.49,-24.51 ; -52.01,18.99 -46,25 ; -52.5,-25 52.5,-25 52.5,25 -52.5,25 -52.5,-25
  text "+" at -87,-2 h35

## LED-TH_3P-BD4.2-P2.54-L_209UYOSYGW [mil]
pads (3):
  rect 60x60 hole 36: 1(-100,0)
  round 60 hole 36: 2(0,0) 3(100,0)
Top Overlay:
  circle w10: c0,0 r59.06
  region: 13.68,44.21 13.68,39.21 -16.32,39.21 -16.32,44.21
  lines w10: -66.65,-41.02 ccw(c0,0) 65.83,-42.32 ; -65.83,42.32 cw(c0,0) 70,35 70,-35
Mechanical 15:
  region: 13.42,43.68 13.42,38.68 -16.58,38.68 -16.58,43.68
  region: 116.58,53.68 116.58,48.68 86.58,48.68 86.58,53.68
  region: 103.69,33.05 98.69,33.05 98.69,63.05 103.69,63.05
  region: -100.53,34.37 -105.53,34.37 -105.53,64.37 -100.53,64.37
  region: -87.63,55 -87.63,50 -117.63,50 -117.63,55

## LFCSP16-ADCLK944BCPZ-R7 [mm]
pads (17):
  rect 0.4x0.25 smd: 1(-1.375,0.75) 2(-1.375,0.25) 3(-1.375,-0.25) 4(-1.375,-0.75) 9(1.375,-0.75) 10(1.375,-0.25) 11(1.375,0.25) 12(1.375,0.75)
  rect 0.25x0.4 smd: 5(-0.75,-1.375) 6(-0.25,-1.375) 7(0.25,-1.375) 8(0.75,-1.375) 13(0.75,1.375) 14(0.25,1.375) 15(-0.25,1.375) 16(-0.75,1.375)
  rect 1.5x1.5 smd: 17(0,0)
via -0.559,0.559 diameter 0.457 hole 0.254
via 0.559,0.559 diameter 0.457 hole 0.254
via 0.559,-0.559 diameter 0.457 hole 0.254
via -0.559,-0.559 diameter 0.457 hole 0.254
Top Overlay:
  circle w0.254: c-1.143,1.143 r0.127
  lines w0.127: -1.524,-1.524 -1.524,1.476 ; -1.502,-1.536 1.498,-1.536 ; -1.502,1.512 1.498,1.512 ; 1.524,-1.524 1.524,1.476

## LGA(133)15MMX15MMX2.82MM(1766) - duplicate [mm]
pads (133):
  rect 0.63x0.63 smd: A1(-6.985,-6.985) A2(-6.985,-5.715) A3(-6.985,-4.445) A4(-6.985,-3.175) A5(-6.985,-1.905) A6(-6.985,-0.635) A7(-6.985,0.635) A8(-6.985,1.905) A9(-6.985,3.175) A10(-6.985,4.445) A11(-6.985,5.715) A12(-6.985,6.985) B1(-5.715,-6.985) B2(-5.715,-5.715) B3(-5.715,-4.445) B4(-5.715,-3.175) B5(-5.715,-1.905) B6(-5.715,-0.635) B7(-5.715,0.635) B9(-5.715,3.175) B11(-5.715,5.715) B12(-5.715,6.985) C1(-4.445,-6.985) C2(-4.445,-5.715) C3(-4.445,-4.445) C4(-4.445,-3.175) C5(-4.445,-1.905) C6(-4.445,-0.635) C7(-4.445,0.635) C10(-4.445,4.445) C11(-4.445,5.715) C12(-4.445,6.985) D1(-3.175,-6.985) D2(-3.175,-5.715) D3(-3.175,-4.445) D4(-3.175,-3.175) D5(-3.175,-1.905) D6(-3.175,-0.635) D9(-3.175,3.175) D11(-3.175,5.715) D12(-3.175,6.985) E1(-1.905,-6.985) E2(-1.905,-5.715) E3(-1.905,-4.445) E4(-1.905,-3.175) E5(-1.905,-1.905) E6(-1.905,-0.635) E7(-1.905,0.635) E8(-1.905,1.905) E11(-1.905,5.715) E12(-1.905,6.985) F1(-0.635,-6.985) F2(-0.635,-5.715) F3(-0.635,-4.445) F4(-0.635,-3.175) F5(-0.635,-1.905) F6(-0.635,-0.635) F7(-0.635,0.635) F8(-0.635,1.905) F9(-0.635,3.175) F12(-0.635,6.985) G1(0.635,-6.985) G2(0.635,-5.715) G3(0.635,-4.445) G4(0.635,-3.175) G5(0.635,-1.905) G6(0.635,-0.635) G7(0.635,0.635) G8(0.635,1.905) G9(0.635,3.175) G10(0.635,4.445) G11(0.635,5.715) G12(0.635,6.985) H1(1.905,-6.985) H2(1.905,-5.715) H3(1.905,-4.445) H4(1.905,-3.175) H5(1.905,-1.905) H6(1.905,-0.635) H7(1.905,0.635) H8(1.905,1.905) H9(1.905,3.175) H10(1.905,4.445) H11(1.905,5.715) H12(1.905,6.985) J1(3.175,-6.985) J2(3.175,-5.715) J3(3.175,-4.445) J4(3.175,-3.175) J5(3.175,-1.905) J6(3.175,-0.635) J7(3.175,0.635) J8(3.175,1.905) J9(3.175,3.175) J10(3.175,4.445) J11(3.175,5.715) J12(3.175,6.985) K1(4.445,-6.985) K2(4.445,-5.715) K3(4.445,-4.445) K4(4.445,-3.175) K5(4.445,-1.905) K6(4.445,-0.635) K7(4.445,0.635) K8(4.445,1.905) K9(4.445,3.175) K10(4.445,4.445) K11(4.445,5.715) K12(4.445,6.985) L1(5.715,-6.985) L2(5.715,-5.715) L3(5.715,-4.445) L4(5.715,-3.175) L5(5.715,-1.905) L6(5.715,-0.635) L7(5.715,0.635) L8(5.715,1.905) L9(5.715,3.175) L10(5.715,4.445) L11(5.715,5.715) L12(5.715,6.985) M1(6.985,-6.985) M2(6.985,-5.715) M3(6.985,-4.445) M4(6.985,-3.175) M5(6.985,-1.905) M6(6.985,-0.635) M7(6.985,0.635) M8(6.985,1.905) M9(6.985,3.175) M10(6.985,4.445) M11(6.985,5.715) M12(6.985,6.985)
Top Overlay:
  lines w0.2: -7.5,-7.5 -6.4,-7.5 -6.4,-6.4 -7.5,-6.4 -7.5,-7.5 ; -7.5,-7.5 -7.5,7.5 7.5,7.5 7.5,-7.5 -7.5,-7.5
Mechanical 1:
  drawing of 532 lines, arcs and shapes, not listed
Mechanical 16:
  drawing of 532 lines, arcs and shapes, not listed

## LQFP48-50P7X7X1.6 [mm] "LQFP, 48-Leads, Body 9.2x9.2mm (max), Pitch 0.50mm, IPC Medium Density"
height 1.6
pads (49):
  oval 1.2x0.3 smd: 1(-4.3,2.75) 2(-4.3,2.25) 3(-4.3,1.75) 4(-4.3,1.25) 5(-4.3,0.75) 6(-4.3,0.25) 7(-4.3,-0.25) 8(-4.3,-0.75) 9(-4.3,-1.25) 10(-4.3,-1.75) 11(-4.3,-2.25) 12(-4.3,-2.75) 25(4.3,-2.75) 26(4.3,-2.25) 27(4.3,-1.75) 28(4.3,-1.25) 29(4.3,-0.75) 30(4.3,-0.25) 31(4.3,0.25) 32(4.3,0.75) 33(4.3,1.25) 34(4.3,1.75) 35(4.3,2.25) 36(4.3,2.75)
  oval 0.3x1.2 smd: 13(-2.75,-4.3) 14(-2.25,-4.3) 15(-1.75,-4.3) 16(-1.25,-4.3) 17(-0.75,-4.3) 18(-0.25,-4.3) 19(0.25,-4.3) 20(0.75,-4.3) 21(1.25,-4.3) 22(1.75,-4.3) 23(2.25,-4.3) 24(2.75,-4.3) 37(2.75,4.3) 38(2.25,4.3) 39(1.75,4.3) 40(1.25,4.3) 41(0.75,4.3) 42(0.25,4.3) 43(-0.25,4.3) 44(-0.75,4.3) 45(-1.25,4.3) 46(-1.75,4.3) 47(-2.25,4.3) 48(-2.75,4.3)
  rect 3.1x3.1 smd: 49(0,0)
Top Overlay:
  circle w0.25: c-4.5,3.45 r0.125
  circle w0.6: c-2.5,2.5 r0.3
  lines w0.2: -3.5,-3.5 -3.5,3.5 3.5,3.5 3.5,-3.5 -3.5,-3.5
Mechanical 13:
  circle w0.1: c-2.55,2.55 r0.5
  lines w0.1: -3.5,-3.5 -3.5,3.5 3.5,3.5 3.5,-3.5 -3.5,-3.5
Mechanical 15:
  lines w0.1: -0.5,0 0.5,0 ; 0,-0.5 0,0.5 ; -5.2,-5.2 -5.2,5.2 5.2,5.2 5.2,-5.2 -5.2,-5.2
3D body: height 1.6, standoff 0.05, extent -3.5,-3.5 3.5,3.5

## LRMD6P-A144G2T9R-T [mm]
pads (146):
  round 3.8 hole 2.7: 1(-16.75,7.08) 1(43.95,7.08)
  round 0.8 hole 0.36: A8(0,0) A9(1.6,0) A10(3.2,0) A11(4.8,0) A12(6.4,0) A13(8,0) A14(9.6,0) A15(11.2,0) A16(12.8,0) A17(14.4,0) A18(16,0) A19(17.6,0) A20(19.2,0) A21(20.8,0) A22(22.4,0) A23(24,0) B8(0,1.1) B9(1.6,1.4) B10(3.2,1.1) B11(4.8,1.4) B12(6.4,1.1) B13(8,1.4) B14(9.6,1.1) B15(11.2,1.4) B16(12.8,1.1) B17(14.4,1.4) B18(16,1.1) B19(17.6,1.4) B20(19.2,1.1) B21(20.8,1.4) B22(22.4,1.1) B23(24,1.4) C8(0,2.5) C9(1.6,2.5) C10(3.2,2.5) C11(4.8,2.5) C12(6.4,2.5) C13(8,2.5) C14(9.6,2.5) C15(11.2,2.5) C16(12.8,2.5) C17(14.4,2.5) C18(16,2.5) C19(17.6,2.5) C20(19.2,2.5) C21(20.8,2.5) C22(22.4,2.5) C23(24,2.5) D8(0,3.6) D9(1.6,3.6) D10(3.2,3.6) D11(4.8,3.6) D12(6.4,3.6) D13(8,3.6) D14(9.6,3.6) D15(11.2,3.6) D16(12.8,3.6) D17(14.4,3.6) D18(16,3.6) D19(17.6,3.6) D20(19.2,3.6) D21(20.8,3.6) D22(22.4,3.6) D23(24,3.6) E8(0,4.7) E9(1.6,5) E10(3.2,4.7) E11(4.8,5) E12(6.4,4.7) E13(8,5) E14(9.6,4.7) E15(11.2,5) E16(12.8,4.7) E17(14.4,5) E18(16,4.7) E19(17.6,5) E20(19.2,4.7) E21(20.8,5) E22(22.4,4.7) E23(24,5) F8(0,6.1) F9(1.6,6.1) F10(3.2,6.1) F11(4.8,6.1) F12(6.4,6.1) F13(8,6.1) F14(9.6,6.1) F15(11.2,6.1) F16(12.8,6.1) F17(14.4,6.1) F18(16,6.1) F19(17.6,6.1) F20(19.2,6.1) F21(20.8,6.1) F22(22.4,6.1) F23(24,6.1) G8(0,7.2) G9(1.6,7.2) G10(3.2,7.2) G11(4.8,7.2) G12(6.4,7.2) G13(8,7.2) G14(9.6,7.2) G15(11.2,7.2) G16(12.8,7.2) G17(14.4,7.2) G18(16,7.2) G19(17.6,7.2) G20(19.2,7.2) G21(20.8,7.2) G22(22.4,7.2) G23(24,7.2) H8(0,8.3) H9(1.6,8.6) H10(3.2,8.3) H11(4.8,8.6) H12(6.4,8.3) H13(8,8.6) H14(9.6,8.3) H15(11.2,8.6) H16(12.8,8.3) H17(14.4,8.6) H18(16,8.3) H19(17.6,8.6) H20(19.2,8.3) H21(20.8,8.6) H22(22.4,8.3) H23(24,8.6) I8(0,9.7) I9(1.6,9.7) I10(3.2,9.7) I11(4.8,9.7) I12(6.4,9.7) I13(8,9.7) I14(9.6,9.7) I15(11.2,9.7) I16(12.8,9.7) I17(14.4,9.7) I18(16,9.7) I19(17.6,9.7) I20(19.2,9.7) I21(20.8,9.7) I22(22.4,9.7) I23(24,9.7)
Top Overlay:
  lines w0.254: -23.9,5.81 -16.75,13.8 ; -23.9,8.3 -19.042,13.811 ; -23.9,10.89 -21.074,13.8 ; -21.328,3.58 -13.581,12.668 ; -18.788,3.58 -13.6,9.7 ; -16.121,3.58 -13.6,6.445 ; -15.105,13.8 -23.9,3.58 ; -13.6,13.8 -23.9,13.8 -23.9,7.08 -23.9,3.58 ; -1.1,13.8 25.1,13.8 ; 0.5,10.89 3.2,13.8 ; 1.6,13.8 -1.1,10.89 25.1,10.89 ; 2.1,10.89 4.8,13.8 ; 3.7,10.89 6.4,13.8 ; 5.3,10.89 8,13.8 ; 6.9,10.89 9.6,13.8 ; 8.5,10.89 11.2,13.8 ; 10.1,10.89 12.8,13.8 ; 11.7,10.89 14.4,13.8 ; 13.3,10.89 16,13.8 ; 14.9,10.89 17.6,13.8 ; 16.5,10.89 19.2,13.8 ; 18.1,10.89 20.8,13.8 ; 19.7,10.89 22.4,13.8 ; 21.3,10.89 24,13.8 ; 22.9,10.89 25.058,13.215 ; 40.8,5.81 47.95,13.8 ; 40.8,8.3 45.658,13.811 ; 40.8,10.89 43.626,13.8 ; 40.8,13.8 51.1,13.8 51.1,7.08 51.1,3.58 43.95,3.58 40.8,3.58 ; 43.372,3.58 51.119,12.668 ; 45.912,3.58 51.1,9.7 ; 48.579,3.58 51.1,6.445 ; 49.595,13.8 40.8,3.58 ; -23.9,3.58 -16.75,3.58 -13.6,3.58 -13.6,7.08 -13.6,21.558 -13.6,22.447 cw(c-12.33,22.447) -12.33,23.717 -2.37,23.717 cw(c-2.37,22.447) -1.1,22.447 -1.1,0 -1.1,-1.3 25.1,-1.3 25.1,0 25.1,21.558 25.1,22.449 cw(c26.37,22.449) 26.37,23.719 39.53,23.719 cw(c39.53,22.449) 40.8,22.449 40.8,21.558 40.8,7.08 40.8,3.58
Drill Guide:
  lines w0.254: -16.75,13.8 -16.75,7.08 ; -13.6,7.08 -16.75,7.08 ; -1.1,0 0,0 0,-1.3 ; 24,-1.3 24,0 25.1,0 ; 40.8,7.08 43.95,7.08 ; 43.95,3.58 43.95,7.08 ; 43.95,13.8 43.95,7.08 ; -23.9,7.08 -16.75,7.08 ; -23.9,7.08 -23.9,13.8 51.1,13.8 51.1,7.08 ; -23.9,7.08 -16.75,7.08 ; 43.95,7.08 51.1,7.08 ; 43.95,7.08 51.1,7.08

## LT1963A-S8 [mil]
pads (8):
  rect 70x30 smd: 1(-104.33,75) 2(-104.33,25) 3(-104.33,-25) 4(-104.33,-75) 5(104.33,-75) 6(104.33,-25) 7(104.33,25) 8(104.33,75)
Top Overlay:
  lines w7: -40,-98.43 -40,98.43 ; -170,55 -170,95 -150,75 -170,55 ; -54.02,-98.43 54.2,-98.43 54.2,98.43 -54.02,98.43 -54.02,-98.43

## LTM4600 [mm] "High Effciency DC/DC μModule"
height 3
pads (104):
  rect 0.635x0.635 smd: A3(-5.716,6.989) A5(-4.446,6.989) A7(-3.176,6.989) A9(-1.906,6.989) A11(-0.636,6.989) A13(0.634,6.989) A15(1.904,6.989) A17(3.174,6.989) A19(4.444,6.989) A21(5.715,6.989) B23(6.987,6.548) C10(-1.27,5.765) C12(0,5.765) C14(1.27,5.765) D1(-6.942,5.278) D23(6.987,5.278) E10(-1.27,4.495) E12(0,4.495) E14(1.27,4.495) F1(-6.942,4.008) F23(6.987,4.008) G1(-6.942,2.738) G23(6.987,2.738) H7(-3.176,2.36) H9(-1.906,2.36) H11(-0.636,2.36) H13(0.634,2.36) H15(1.904,2.36) H17(3.174,2.36) J1(-6.942,1.468) J23(6.987,1.468) K7(-3.176,1.09) K9(-1.906,1.09) K11(-0.636,1.09) K13(0.634,1.09) K15(1.904,1.09) K17(3.174,1.09) L2(-6.35,0) L4(-5.08,0) L6(-3.81,0) L8(-2.54,0) L10(-1.27,0) L12(0,0) L14(1.27,0) L16(2.54,0) L18(3.81,0) L20(5.08,0) L22(6.35,0) M2(-6.35,-1.27) M4(-5.08,-1.27) M6(-3.81,-1.27) M8(-2.54,-1.27) M10(-1.27,-1.27) M12(0,-1.27) M14(1.27,-1.27) M16(2.54,-1.27) M18(3.81,-1.27) M20(5.08,-1.27) M22(6.35,-1.27) N2(-6.35,-2.54) N4(-5.08,-2.54) N6(-3.81,-2.54) N8(-2.54,-2.54) N10(-1.27,-2.54) N12(0,-2.54) N14(1.27,-2.54) N16(2.54,-2.54) N18(3.81,-2.54) N20(5.08,-2.54) N22(6.35,-2.54) P2(-6.35,-4.445) P4(-5.08,-4.445) P6(-3.81,-4.445) P8(-2.54,-4.445) P10(-1.27,-4.445) P12(0,-4.445) P14(1.27,-4.445) P16(2.54,-4.445) P18(3.81,-4.445) P20(5.08,-4.445) P22(6.35,-4.445) R2(-6.35,-5.715) R4(-5.08,-5.715) R6(-3.81,-5.715) R8(-2.54,-5.715) R10(-1.27,-5.715) R12(0,-5.715) R14(1.27,-5.715) R16(2.54,-5.715) R18(3.81,-5.715) R20(5.08,-5.715) R22(6.35,-5.715) T2(-6.35,-6.985) T4(-5.08,-6.985) T6(-3.81,-6.985) T8(-2.54,-6.985) T10(-1.27,-6.985) T12(0,-6.985) T14(1.27,-6.985) T16(2.54,-6.985) T18(3.81,-6.985) T20(5.08,-6.985) T22(6.35,-6.985)
  rect 0.635x0.635 smd paste+0: B1(-6.942,6.548)
Top Overlay:
  lines w0.254: -7.5,-7.5 -7.5,7.5 7.5,7.5 7.5,-7.5 -7.5,-7.5
  text "." at -7.899,6.528 h1.52

## LTM4613-LGA(133) [mm]
pads (133):
  rect 0.63x0.63 smd: A1(-6.985,-6.985) A2(-6.985,-5.715) A3(-6.985,-4.445) A4(-6.985,-3.175) A5(-6.985,-1.905) A6(-6.985,-0.635) A7(-6.985,0.635) A8(-6.985,1.905) A9(-6.985,3.175) A10(-6.985,4.445) A11(-6.985,5.715) A12(-6.985,6.985) B1(-5.715,-6.985) B2(-5.715,-5.715) B3(-5.715,-4.445) B4(-5.715,-3.175) B5(-5.715,-1.905) B6(-5.715,-0.635) B7(-5.715,0.635) B9(-5.715,3.175) B11(-5.715,5.715) B12(-5.715,6.985) C1(-4.445,-6.985) C2(-4.445,-5.715) C3(-4.445,-4.445) C4(-4.445,-3.175) C5(-4.445,-1.905) C6(-4.445,-0.635) C7(-4.445,0.635) C10(-4.445,4.445) C11(-4.445,5.715) C12(-4.445,6.985) D1(-3.175,-6.985) D2(-3.175,-5.715) D3(-3.175,-4.445) D4(-3.175,-3.175) D5(-3.175,-1.905) D6(-3.175,-0.635) D9(-3.175,3.175) D11(-3.175,5.715) D12(-3.175,6.985) E1(-1.905,-6.985) E2(-1.905,-5.715) E3(-1.905,-4.445) E4(-1.905,-3.175) E5(-1.905,-1.905) E6(-1.905,-0.635) E7(-1.905,0.635) E8(-1.905,1.905) E11(-1.905,5.715) E12(-1.905,6.985) F1(-0.635,-6.985) F2(-0.635,-5.715) F3(-0.635,-4.445) F4(-0.635,-3.175) F5(-0.635,-1.905) F6(-0.635,-0.635) F7(-0.635,0.635) F8(-0.635,1.905) F9(-0.635,3.175) F12(-0.635,6.985) G1(0.635,-6.985) G2(0.635,-5.715) G3(0.635,-4.445) G4(0.635,-3.175) G5(0.635,-1.905) G6(0.635,-0.635) G7(0.635,0.635) G8(0.635,1.905) G9(0.635,3.175) G10(0.635,4.445) G11(0.635,5.715) G12(0.635,6.985) H1(1.905,-6.985) H2(1.905,-5.715) H3(1.905,-4.445) H4(1.905,-3.175) H5(1.905,-1.905) H6(1.905,-0.635) H7(1.905,0.635) H8(1.905,1.905) H9(1.905,3.175) H10(1.905,4.445) H11(1.905,5.715) H12(1.905,6.985) J1(3.175,-6.985) J2(3.175,-5.715) J3(3.175,-4.445) J4(3.175,-3.175) J5(3.175,-1.905) J6(3.175,-0.635) J7(3.175,0.635) J8(3.175,1.905) J9(3.175,3.175) J10(3.175,4.445) J11(3.175,5.715) J12(3.175,6.985) K1(4.445,-6.985) K2(4.445,-5.715) K3(4.445,-4.445) K4(4.445,-3.175) K5(4.445,-1.905) K6(4.445,-0.635) K7(4.445,0.635) K8(4.445,1.905) K9(4.445,3.175) K10(4.445,4.445) K11(4.445,5.715) K12(4.445,6.985) L1(5.715,-6.985) L2(5.715,-5.715) L3(5.715,-4.445) L4(5.715,-3.175) L5(5.715,-1.905) L6(5.715,-0.635) L7(5.715,0.635) L8(5.715,1.905) L9(5.715,3.175) L10(5.715,4.445) L11(5.715,5.715) L12(5.715,6.985) M1(6.985,-6.985) M2(6.985,-5.715) M3(6.985,-4.445) M4(6.985,-3.175) M5(6.985,-1.905) M6(6.985,-0.635) M7(6.985,0.635) M8(6.985,1.905) M9(6.985,3.175) M10(6.985,4.445) M11(6.985,5.715) M12(6.985,6.985)
Top Overlay:
  lines w0.2: -7.5,-7.5 -6.4,-7.5 -6.4,-6.4 -7.5,-6.4 -7.5,-7.5 ; -7.5,-7.5 -7.5,7.5 7.5,7.5 7.5,-7.5 -7.5,-7.5
Mechanical 1:
  drawing of 532 lines, arcs and shapes, not listed
Mechanical 16:
  drawing of 532 lines, arcs and shapes, not listed